# Altium schematic symbol library Userlib.SchLib: 7 symbols
Pins are listed as number, name and electrical type; pins without a type are passive.

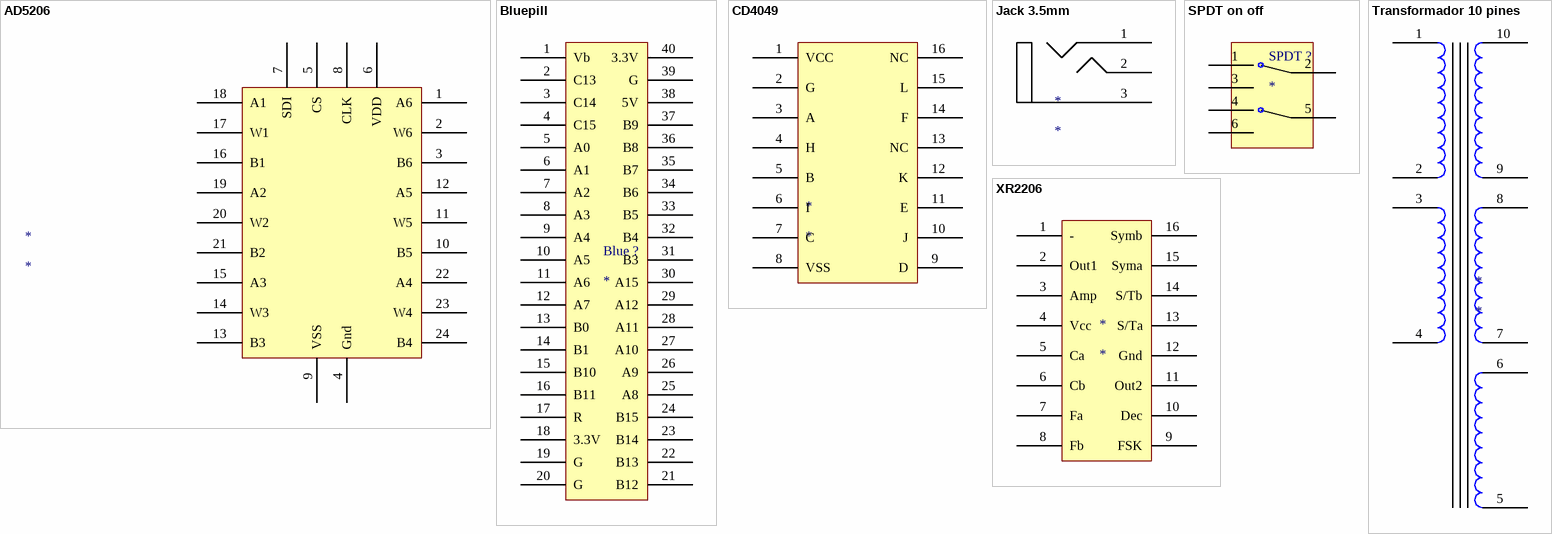
[diagram p0: symbols AD5206 to XR2206]

## AD5206
designator *
pins: 1 A6, 2 W6, 3 B6, 4 Gnd, 5 CS, 6 VDD, 7 SDI, 8 CLK, 9 VSS, 10 B5, 11 W5, 12 A5, 13 B3, 14 W3, 15 A3, 16 B1, 17 W1, 18 A1, 19 A2, 20 W2, 21 B2, 22 A4, 23 W4, 24 B4

## Bluepill
designator Blue ?
footprint Bluepill
pins: 1 Vb, 2 C13, 3 C14, 4 C15, 5 A0, 6 A1, 7 A2, 8 A3, 9 A4, 10 A5, 11 A6, 12 A7, 13 B0, 14 B1, 15 B10, 16 B11, 17 R, 18 3.3V, 19 G, 20 G, 21 B12, 22 B13, 23 B14, 24 B15, 25 A8, 26 A9, 27 A10, 28 A11, 29 A12, 30 A15, 31 B3, 32 B4, 33 B5, 34 B6, 35 B7, 36 B8, 37 B9, 38 5V, 39 G, 40 3.3V

## CD4049
designator *
pins: 1 VCC, 2 G, 3 A, 4 H, 5 B, 6 I, 7 C, 8 VSS, 9 D, 10 J, 11 E, 12 K, 13 NC, 14 F, 15 L, 16 NC

## Jack 3.5mm
designator *
footprint Jack 3.5mm
pins: 1 R, 2 L, 3 Gnd

## SPDT on off
designator SPDT ?
footprint DIP-6 (Footprint not found)
pins: 1 B15, 2 B17, 3 B16, 4 B18, 5 6, 6 5

## Transformador 10 pines
designator *
pins: 1 L, 2 L, 3 L, 4 L, 5 L, 6 L, 7 L, 8 L, 9 L, 10 L

## XR2206
designator *
footprint PDIP16 (DIP; 16 Leads; Row Spacing 7.62 mm; Pitch 2.54 mm)
pins: 1 -, 2 Out1, 3 Amp, 4 Vcc, 5 Ca, 6 Cb, 7 Fa, 8 Fb, 9 FSK, 10 Dec, 11 Out2, 12 Gnd, 13 S/Ta, 14 S/Tb, 15 Syma, 16 Symb